# Altium footprint library PcbLib1.PcbLib: 15 footprints
Each footprint in its own frame and in the unit in brackets; x right, y up, seen from the top. Pads: shape width x height; smd on the part's side, far side on the other; paste and mask are expansions set on the pad; w line width, h text height; cw(c..) or ccw(c..) is an arc to the next point about the centre after c.
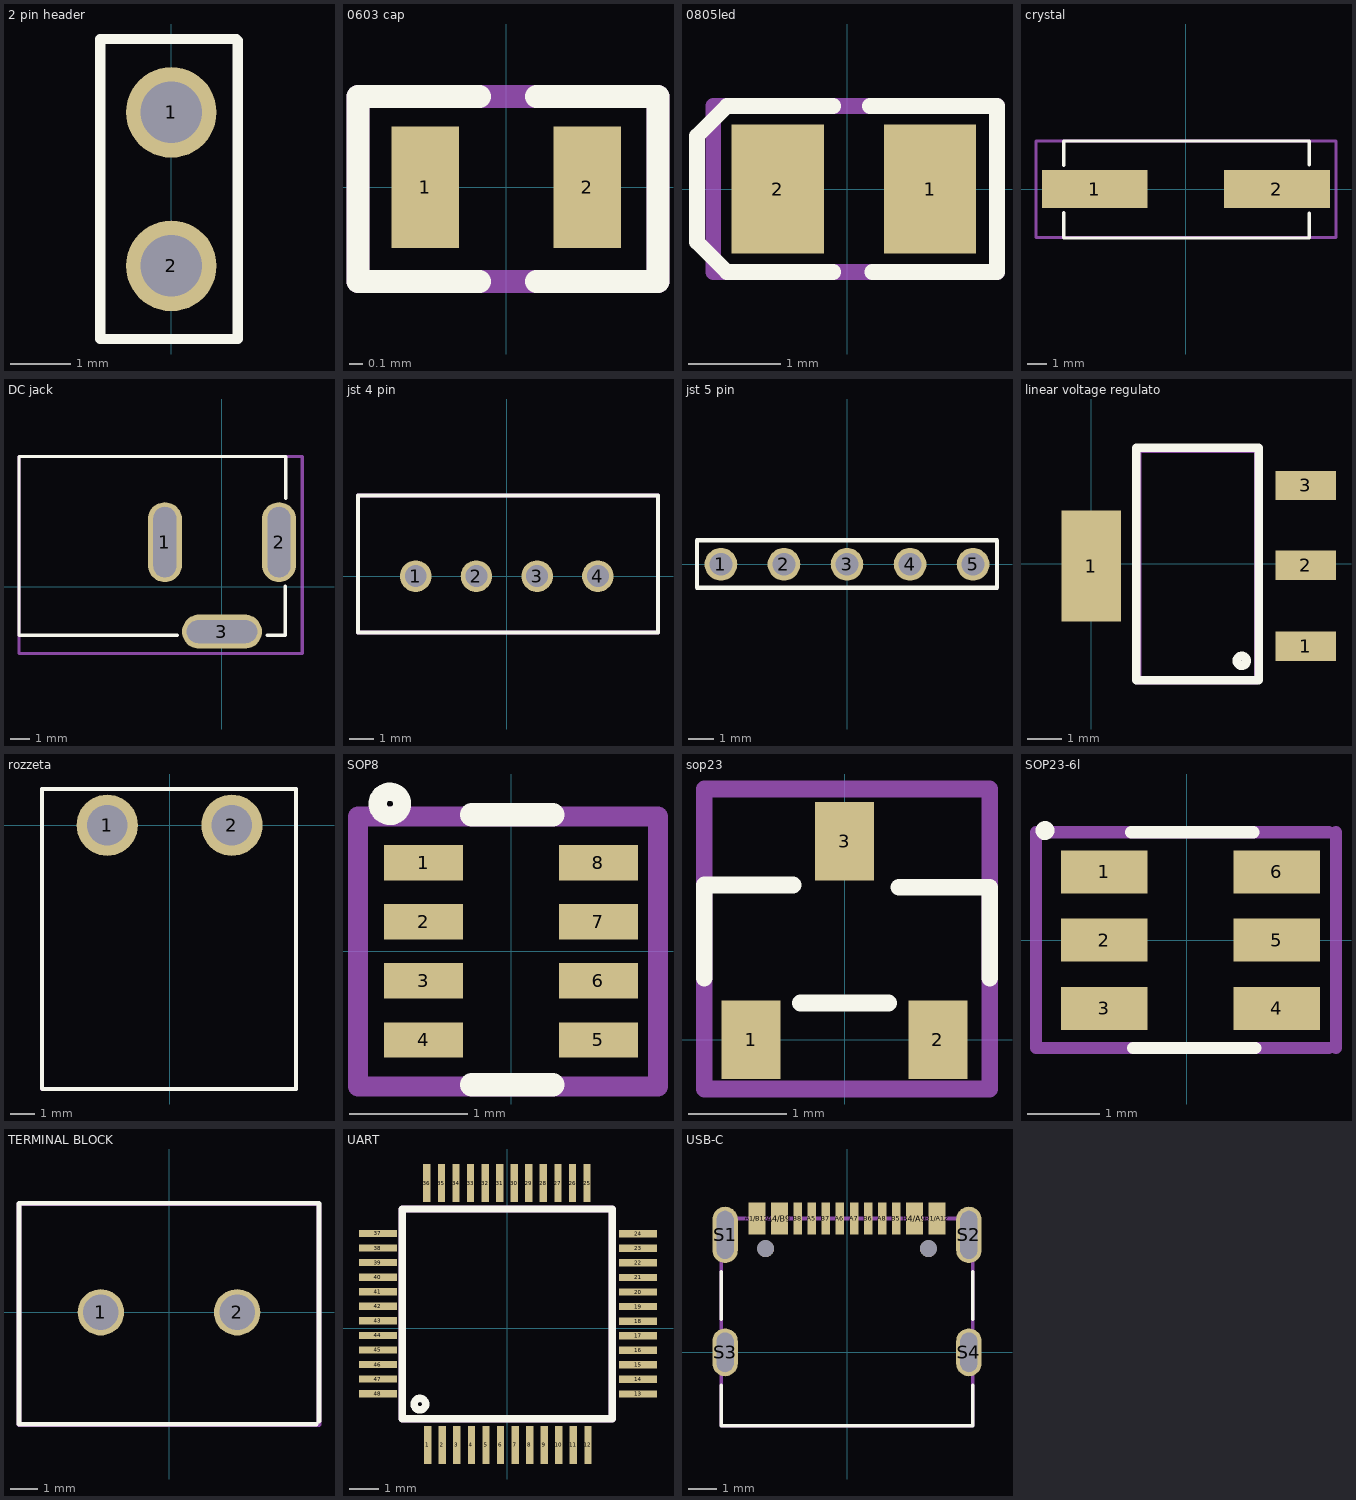
[diagram p0: the footprints below, top view; thin cyan lines are the x and y axes]

## 2 pin header [mm]
pads (2):
  round 1.5 hole 1.02: 1(0,6.35) 2(0,3.81)
Top Overlay:
  lines w0.17: -1.175,2.6 1.1,2.6 1.1,7.54 1.075,7.565 -1.175,7.565 -1.175,2.6

## 0603 cap [mm]
pads (2):
  rect 0.5x0.9 smd: 1(-0.6,0) 2(0.6,0)
Top Overlay:
  lines w0.17: -0.2,-0.7 -1.1,-0.7 -1.1,0.675 -0.2,0.675 ; 0.225,-0.7 1.125,-0.7 1.125,0.675 0.225,0.675
Mechanical 29:
  lines w0.17: -1.1,-0.7 -1.1,0.675 1.125,0.675 1.125,-0.7 -1.1,-0.7
  text ".Designator" at -4.346,-2.163 h1
3D body "User Library-SMD CAPACITOR.step": height 0.8, standoff 0, extent -0.8,-0.4 0.8,0.4

## 0805led [mm]
pads (2):
  rect 1x1.4 smd: 1(0.9,0) 2(-0.75,0)
Top Overlay:
  lines w0.17: -0.15,-0.9 -1.3,-0.9 -1.625,-0.575 -1.625,0.575 -1.3,0.9 -0.15,0.9 ; 0.25,0.9 1.625,0.9 1.625,-0.9 0.275,-0.9
Mechanical 29:
  lines w0.17: -1.45,-0.9 1.625,-0.9 1.625,0.9 -1.45,0.9 -1.45,-0.9
  text ".Designator" at -4.371,-2.213 h1
3D body "User Library-LED SMD0805.STEP": height 0.85, standoff 0.01, extent -0.931,-0.531 1.131,0.375

## crystal [mm]
pads (2):
  rect 5.5x2 smd: 1(-4.75,0) 2(4.75,0)
Top Overlay:
  lines w0.17: -6.35,-1.225 -6.35,-2.55 6.425,-2.55 6.425,-1.25 ; -6.35,1.225 -6.35,2.5 6.425,2.5 6.425,1.25
Mechanical 29:
  lines w0.17: -7.8,-2.525 -7.8,2.5 7.825,2.5 7.825,-2.525 -7.8,-2.525
  text ".Designator" at -7.121,3.237 h1
3D body "User Library-SMU4.STEP": height 4.02, standoff 0.02, extent -6.201,-2.425 6.299,2.375

## DC jack [mm]
pads (3):
  oval 1.801x4.201 hole 1.199 slot 3.701 at 90 deg: 1(-3,2.351) 2(3,2.351)
  oval 4.201x1.801 hole 1.199 slot 3.701 at 0 deg: 3(0,-2.351)
Top Overlay:
  lines w0.17: -2.337,-2.54 -10.668,-2.54 -10.668,6.858 3.353,6.858 3.353,4.648 ; 2.362,-2.54 3.327,-2.54 3.327,0.051
Mechanical 29:
  lines w0.17: -10.668,-3.505 4.216,-3.505 4.216,6.858 -10.668,6.858 -10.668,-3.505
  text ".Designator" at -9.931,-6.02 h1.52
3D body "dc-005-5a-2_0.stp": height 11.09, standoff -3.51, extent -10.658,-2.542 3.342,6.858

## jst 4 pin [mm]
pads (4):
  round 1.3 hole 0.9: 1(-3.75,0) 2(-1.25,0) 3(1.25,0) 4(3.75,0)
Top Overlay:
  lines w0.17: -6.125,-2.325 -6.125,3.325 6.225,3.325 6.225,-2.325 -6.125,-2.325
Mechanical 29:
  lines w0.17: -6.125,-2.325 -6.125,3.325 6.225,3.325 6.225,-2.325 -6.125,-2.325
  text ".Designator" at -5.471,4.087 h1
3D body "User Library-jst-b4b-xh-a-1.step": height 2.95, standoff -7.45, extent -6.175,-2.375 6.225,3.375

## jst 5 pin [mm]
pads (5):
  round 1.3 hole 0.9: 1(-5,0) 2(-2.5,0) 3(0,0) 4(2.5,0) 5(5,0)
Top Overlay:
  lines w0.17: -5.95,-0.925 5.95,-0.925 5.95,0.95 -5.95,0.95 -5.95,-0.925

## linear voltage regulato [mm]
pads (4):
  rect 1.72x3.2 smd: 1(0,-0.07)
  rect 1.75x0.85 smd: 1(6.2,-2.39) 2(6.2,-0.05) 3(6.2,2.26)
Top Overlay:
  circle w0.254: c4.35,-2.81 r0.14
  lines w0.254: 1.3,-3.37 4.83,-3.37 ; 1.3,-3.35 1.3,3.35 4.83,3.35 ; 4.84,-3.37 4.84,3.33 ; 4.83,3.35 ccw(c4.83,3.35) 4.83,3.35
Mechanical 29:
  lines w0.254: 1.32,-3.37 4.733,-3.37 ccw(c4.733,-3.233) 4.83,-3.33 4.83,3.306 cw(c4.864,3.306) 4.84,3.33 1.364,3.33 ccw(c1.364,3.296) 1.34,3.32 ccw(c1.388,3.272) 1.32,3.272 1.32,-3.37
  text ".Designator" at -2.226,3.927 h1
3D body "SOT-223_6P7X3P7X2P3_STM.step": height 1.91, standoff 0, extent -0.485,-3.413 6.805,3.293

## rozzeta [mm]
pads (2):
  round 2.5 hole 1.65: 1(-2.54,0) 2(2.54,0)
Top Overlay:
  lines w0.17: -5.2,-10.725 -5.2,1.475 5.125,1.475 ; -5.175,-10.75 5.15,-10.75 5.15,1.475
Mechanical 29:
  lines w0.17: -5.2,-10.75 -5.2,1.475 5.15,1.475 5.15,-10.75 -5.2,-10.75
  text ".Designator" at -7.446,-8.463 h1.52

## SOP8 [mm]
pads (8):
  rect 0.67x0.3 smd mask+0.06: 1(-0.74,0.75) 2(-0.74,0.25) 3(-0.74,-0.25) 4(-0.74,-0.75) 5(0.74,-0.75) 6(0.74,-0.25) 7(0.74,0.25) 8(0.74,0.75)
Top Overlay:
  circle w0.154: c-1.025,1.25 r0.103
  lines w0.2: -0.334,-1.13 0.352,-1.13 ; -0.334,1.156 0.352,1.156
Mechanical 29:
  lines w0.17: -1.295,-1.143 -1.295,1.143 1.245,1.143 1.245,-1.143 -1.295,-1.143
  text ".Designator" at -3.912,-2.486 h1
3D body "TPS2116DRLR--3DModel-STEP-510211.STEP": height 0.6, standoff 0, extent -0.85,-1.05 0.75,1.05

## sop23 [mm]
pads (3):
  rect 0.6x0.8 smd: 1(-0.95,0) 2(0.95,0) 3(0,2.02)
Top Overlay:
  lines w0.17: -1.425,0.625 -1.425,1.575 -0.525,1.575 ; -0.45,0.375 0.45,0.375 ; 0.55,1.55 1.475,1.55 1.475,0.625
Mechanical 29:
  lines w0.17: -1.425,-0.5 -1.425,2.55 1.475,2.55 1.475,-0.5 -1.425,-0.5
  text ".Designator" at -2.646,-2.038 h1
3D body "PSM712-LF-T7.STEP": height 1.21, standoff 0, extent -1.435,-0.125 1.485,2.175

## SOP23-6l [mm]
pads (6):
  rect 1.2x0.6 smd: 1(-1.15,0.95) 2(-1.15,0) 3(-1.15,-0.95) 4(1.25,-0.95) 5(1.25,0) 6(1.25,0.95)
Top Overlay:
  circle w0.15: c-1.975,1.525 r0.056
  lines w0.17: -0.775,1.5 0.925,1.5 ; -0.75,-1.5 0.95,-1.5
Mechanical 29:
  lines w0.17: 1.975,-1.5 -2.1,-1.5 -2.1,1.5 1.975,1.5 ; 2.075,-1.5 2.075,1.5
  text ".Designator" at -2.596,-2.988 h1
3D body "SOT23-6L_STM.step": height 1.45, standoff 0, extent -1.399,-1.524 1.599,1.524

## TERMINAL BLOCK [mm]
pads (2):
  round 1.7 hole 1.3: 1(-2.5,0) 2(2.5,0)
Top Overlay:
  lines w0.17: 5.4,-4.1 -5.5,-4.1 -5.5,4 5.5,4 5.5,-4
Mechanical 29:
  lines w0.17: -5.5,-4.125 -5.5,3.975 5.475,3.975 5.5,3.95 5.5,-4.125 -5.5,-4.125
  text ".Designator" at -6.462,-5.321 h1
3D body "User Library-klema-5mm-2pin.step": height 14.1, standoff -3.9, extent -5.075,-5.1 4.925,5.4

## UART [mm]
height 3.1
pads (48):
  rect 0.25x1.31 smd: 1(-2.73,-4) 2(-2.23,-4) 3(-1.73,-4) 4(-1.23,-4) 5(-0.73,-4) 6(-0.23,-4) 7(0.27,-4) 8(0.77,-4) 9(1.27,-4) 10(1.77,-4) 11(2.27,-4) 12(2.77,-4) 25(2.74,4.99) 26(2.24,4.99) 27(1.74,4.99) 28(1.24,4.99) 29(0.74,4.99) 30(0.24,4.99) 31(-0.26,4.99) 32(-0.76,4.99) 33(-1.26,4.99) 34(-1.76,4.99) 35(-2.26,4.99) 36(-2.76,4.99)
  rect 1.31x0.25 smd: 13(4.49,-2.25) 14(4.49,-1.75) 15(4.49,-1.25) 16(4.49,-0.75) 17(4.49,-0.25) 18(4.49,0.25) 19(4.49,0.75) 20(4.49,1.25) 21(4.49,1.75) 22(4.49,2.25) 23(4.49,2.75) 24(4.49,3.25) 37(-4.44,3.26) 38(-4.44,2.76) 39(-4.44,2.26) 40(-4.44,1.76) 41(-4.44,1.26) 42(-4.44,0.76) 43(-4.44,0.26) 44(-4.44,-0.24) 45(-4.44,-0.74) 46(-4.44,-1.24) 47(-4.44,-1.74) 48(-4.44,-2.24)
Top Overlay:
  circle w0.254: c-3,-2.6 r0.2
  lines w0.254: -3.6,-3.1 3.6,-3.1 3.6,4.1 -3.6,4.1 -3.6,-3.1
Mechanical 29:
  lines w0.254: -3.6,-3.1 3.6,-3.1 3.6,4.1 -3.6,4.1 -3.6,-3.1
  text ".Designator" at -7.606,6.882 h1.52
3D body "TQFP-48.step": height 1.2, standoff 0, extent -4.567,-4.097 4.627,5.097

## USB-C [mm]
height 3.26
pads (18):
  rect 0.6x1.14 smd mask+0.05: A1/B12(-3.2,4.75) A4/B9(-2.4,4.75) B1/A12(3.2,4.75) B4/A9(2.4,4.75)
  rect 0.3x1.14 smd mask+0.05: A5(-1.25,4.75) A6(-0.25,4.75) A7(0.25,4.75) A8(1.25,4.75) B5(1.75,4.75) B6(0.75,4.75) B7(-0.75,4.75) B8(-1.75,4.75)
  oval 0.9x2 hole 0.6 slot 1.7 at 90 deg: S1(-4.325,4.17) S2(4.325,4.17)
  oval 0.9x1.7 hole 0.6 slot 1.4 at 90 deg: S3(-4.325,0) S4(4.325,0)
  round 0.6 hole 0.6 unplated: ""(-2.89,3.68) ""(2.89,3.68)
Top Overlay:
  lines w0.127: -4.47,-1.17 -4.47,-2.6 4.47,-2.6 4.47,-1.17 ; -4.47,1.17 -4.47,2.85 ; 4.47,1.17 4.47,2.85
Mechanical 29:
  lines w0.127: -4.47,-2.6 -4.47,4.75 4.47,4.75 4.47,-2.6 -4.47,-2.6
3D body "step_temp.STEP": height 3.31, standoff -0.99, extent -4.47,-2.6 4.47,5.305